# Altium footprint library Fuse Holder.PcbLib: 1 footprints
Each footprint in its own frame and in the unit in brackets; x right, y up, seen from the top. Pads: shape width x height; smd on the part's side, far side on the other; paste and mask are expansions set on the pad; w line width, h text height; cw(c..) or ccw(c..) is an arc to the next point about the centre after c.
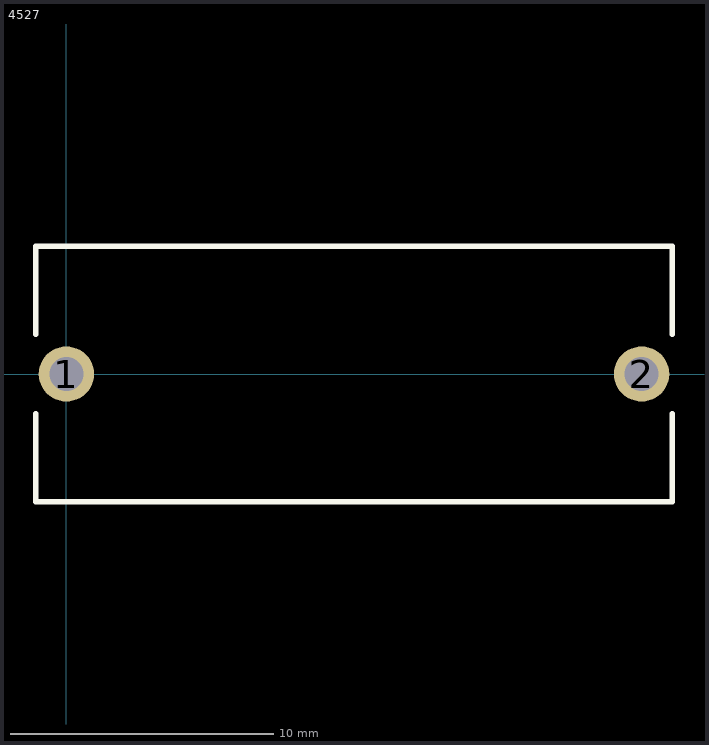
[diagram p0: the footprint, top view; thin cyan lines are the x and y axes]

## 4527 [mm] "5mm PC FUSE HOLDER"
pads (2):
  round 2.1 hole 1.3: 1(0,0) 2(21.84,0)
Top Overlay:
  lines w0.2: -1.16,-1.5 -1.16,-4.85 23,-4.85 23,-1.5 ; -1.16,1.5 -1.16,4.85 23,4.85 23,1.5
3D body: height 4, standoff 0, extent 6.604,-4.95 15.24,4.95
3D body: height 10, standoff 0, extent 15.236,-4.95 23.1,4.95
3D body: height 10, standoff 0, extent -1.26,-4.95 6.604,4.95